# EAGLE library part VALVE_PNE_4_2_DA (library untitled)
Valve, pneumatically actuated, 4/2, double actuated
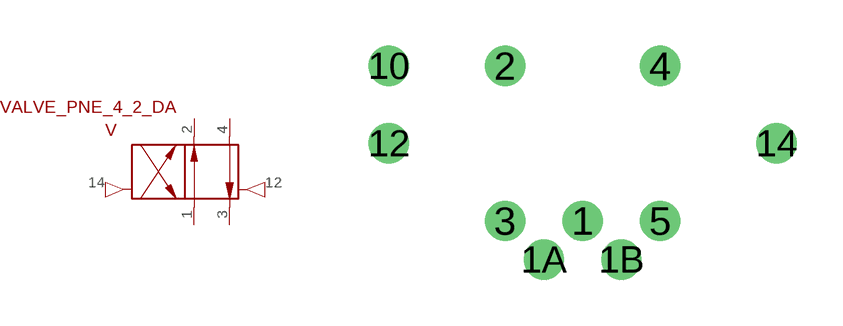
[diagram p0: symbol with the pads of CONNECTIONS; footprint CONNECTIONS]

Designator prefix V

## VALVE_PNE_4_2_DA  [CONNECTIONS]
1  1
2  2
3  3
4  4
12  12
14  14

## Footprint CONNECTIONS (pad centres in mm)
Connections
drill 0.813 round: 1 0,-2.54; 1A -1.27,-3.81; 1B 1.27,-3.81; 2 -2.54,2.54; 3 -2.54,-2.54; 4 2.54,2.54; 5 2.54,-2.54; 10 -6.35,2.54; 12 -6.35,0; 14 6.35,0